# EAGLE library part K20_80PIN (library WSNlib)
K20 80-pin LQFP Device
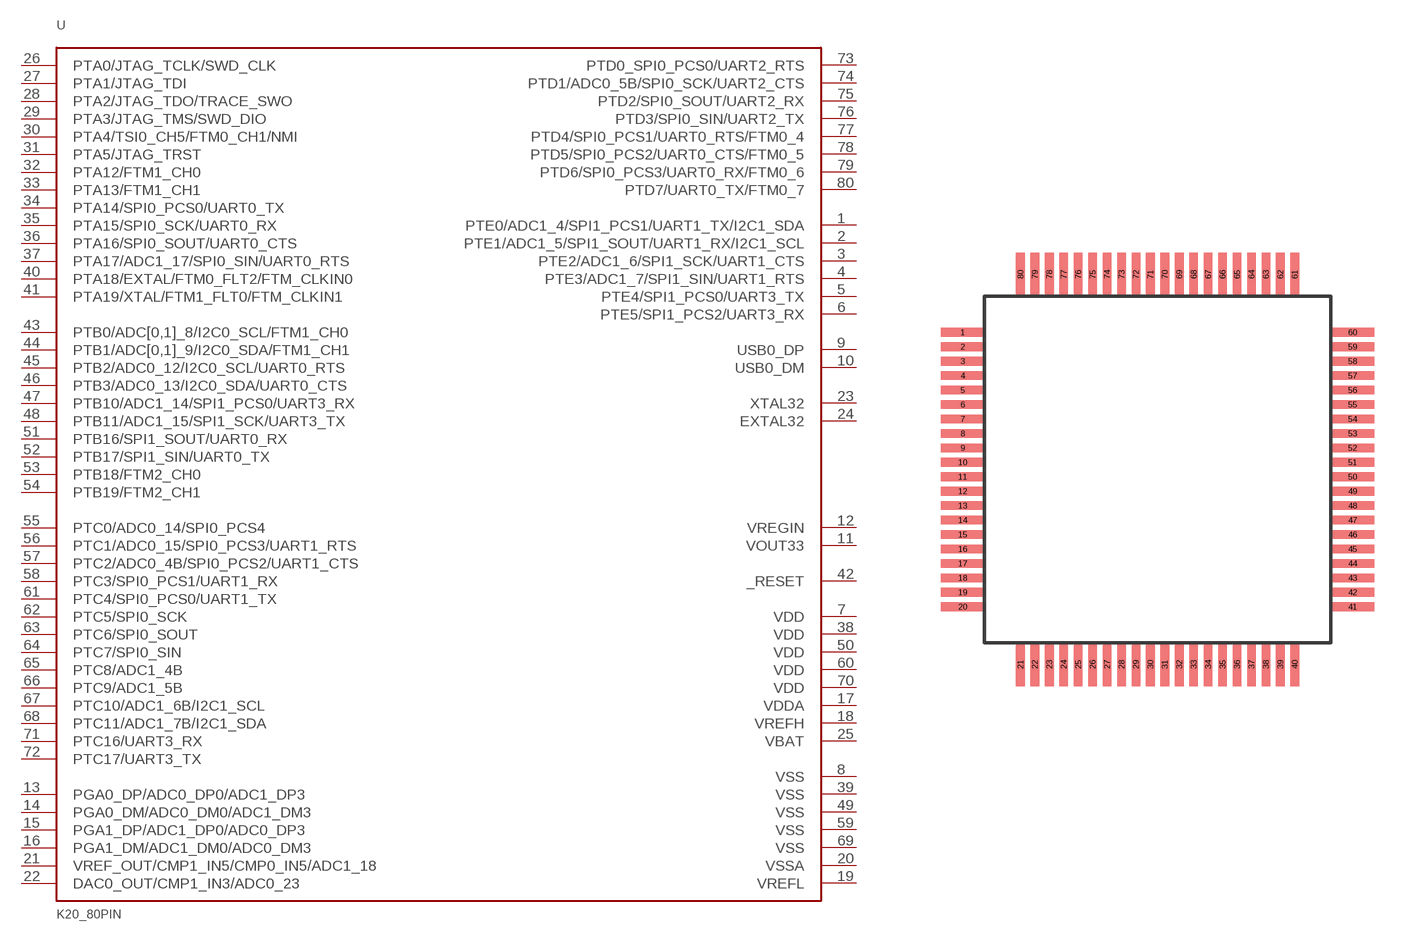
[diagram p13: symbol with the pads of K20_LQFP80; footprint K20_LQFP80]

Designator prefix U

## K20_80PIN  [K20_LQFP80]
1  PTE0/ADC1_4/SPI1_PCS1/UART1_TX/I2C1_SDA
2  PTE1/ADC1_5/SPI1_SOUT/UART1_RX/I2C1_SCL
3  PTE2/ADC1_6/SPI1_SCK/UART1_CTS
4  PTE3/ADC1_7/SPI1_SIN/UART1_RTS
5  PTE4/SPI1_PCS0/UART3_TX
6  PTE5/SPI1_PCS2/UART3_RX
7  VDD
8  VSS
9  USB0_DP
10  USB0_DM
11  VOUT33
12  VREGIN
13  PGA0_DP/ADC0_DP0/ADC1_DP3
14  PGA0_DM/ADC0_DM0/ADC1_DM3
15  PGA1_DP/ADC1_DP0/ADC0_DP3
16  PGA1_DM/ADC1_DM0/ADC0_DM3
17  VDDA
18  VREFH
19  VREFL
20  VSSA
21  VREF_OUT/CMP1_IN5/CMP0_IN5/ADC1_18
22  DAC0_OUT/CMP1_IN3/ADC0_23
23  XTAL32
24  EXTAL32
25  VBAT
26  PTA0/JTAG_TCLK/SWD_CLK
27  PTA1/JTAG_TDI
28  PTA2/JTAG_TDO/TRACE_SWO
29  PTA3/JTAG_TMS/SWD_DIO
30  PTA4/TSI0_CH5/FTM0_CH1/NMI
31  PTA5/JTAG_TRST
32  PTA12/FTM1_CH0
33  PTA13/FTM1_CH1
34  PTA14/SPI0_PCS0/UART0_TX
35  PTA15/SPI0_SCK/UART0_RX
36  PTA16/SPI0_SOUT/UART0_CTS
37  PTA17/ADC1_17/SPI0_SIN/UART0_RTS
38  VDD
39  VSS
40  PTA18/EXTAL/FTM0_FLT2/FTM_CLKIN0
41  PTA19/XTAL/FTM1_FLT0/FTM_CLKIN1
42  _RESET
43  PTB0/ADC[0,1]_8/I2C0_SCL/FTM1_CH0
44  PTB1/ADC[0,1]_9/I2C0_SDA/FTM1_CH1
45  PTB2/ADC0_12/I2C0_SCL/UART0_RTS
46  PTB3/ADC0_13/I2C0_SDA/UART0_CTS
47  PTB10/ADC1_14/SPI1_PCS0/UART3_RX
48  PTB11/ADC1_15/SPI1_SCK/UART3_TX
49  VSS
50  VDD
51  PTB16/SPI1_SOUT/UART0_RX
52  PTB17/SPI1_SIN/UART0_TX
53  PTB18/FTM2_CH0
54  PTB19/FTM2_CH1
55  PTC0/ADC0_14/SPI0_PCS4
56  PTC1/ADC0_15/SPI0_PCS3/UART1_RTS
57  PTC2/ADC0_4B/SPI0_PCS2/UART1_CTS
58  PTC3/SPI0_PCS1/UART1_RX
59  VSS
60  VDD
61  PTC4/SPI0_PCS0/UART1_TX
62  PTC5/SPI0_SCK
63  PTC6/SPI0_SOUT
64  PTC7/SPI0_SIN
65  PTC8/ADC1_4B
66  PTC9/ADC1_5B
67  PTC10/ADC1_6B/I2C1_SCL
68  PTC11/ADC1_7B/I2C1_SDA
69  VSS
70  VDD
71  PTC16/UART3_RX
72  PTC17/UART3_TX
73  PTD0_SPI0_PCS0/UART2_RTS
74  PTD1/ADC0_5B/SPI0_SCK/UART2_CTS
75  PTD2/SPI0_SOUT/UART2_RX
76  PTD3/SPI0_SIN/UART2_TX
77  PTD4/SPI0_PCS1/UART0_RTS/FTM0_4
78  PTD5/SPI0_PCS2/UART0_CTS/FTM0_5
79  PTD6/SPI0_PCS3/UART0_RX/FTM0_6
80  PTD7/UART0_TX/FTM0_7

## Footprint K20_LQFP80 (pad centres in mm)
LQFP80 package for K20
smd 1.5 x 0.3: 1 -6.75,4.75; 2 -6.75,4.25; 3 -6.75,3.75; 4 -6.75,3.25; 5 -6.75,2.75; 6 -6.75,2.25; 7 -6.75,1.75; 8 -6.75,1.25; 9 -6.75,0.75; 10 -6.75,0.25; 11 -6.75,-0.25; 12 -6.75,-0.75; 13 -6.75,-1.25; 14 -6.75,-1.75; 15 -6.75,-2.25; 16 -6.75,-2.75; 17 -6.75,-3.25; 18 -6.75,-3.75; 19 -6.75,-4.25; 20 -6.75,-4.75; 41 6.75,-4.75; 42 6.75,-4.25; 43 6.75,-3.75; 44 6.75,-3.25; 45 6.75,-2.75; 46 6.75,-2.25; 47 6.75,-1.75; 48 6.75,-1.25; 49 6.75,-0.75; 50 6.75,-0.25; 51 6.75,0.25; 52 6.75,0.75; 53 6.75,1.25; 54 6.75,1.75; 55 6.75,2.25; 56 6.75,2.75; 57 6.75,3.25; 58 6.75,3.75; 59 6.75,4.25; 60 6.75,4.75
smd 0.3 x 1.5: 21 -4.75,-6.75; 22 -4.25,-6.75; 23 -3.75,-6.75; 24 -3.25,-6.75; 25 -2.75,-6.75; 26 -2.25,-6.75; 27 -1.75,-6.75; 28 -1.25,-6.75; 29 -0.75,-6.75; 30 -0.25,-6.75; 31 0.25,-6.75; 32 0.75,-6.75; 33 1.25,-6.75; 34 1.75,-6.75; 35 2.25,-6.75; 36 2.75,-6.75; 37 3.25,-6.75; 38 3.75,-6.75; 39 4.25,-6.75; 40 4.75,-6.75; 61 4.75,6.75; 62 4.25,6.75; 63 3.75,6.75; 64 3.25,6.75; 65 2.75,6.75; 66 2.25,6.75; 67 1.75,6.75; 68 1.25,6.75; 69 0.75,6.75; 70 0.25,6.75; 71 -0.25,6.75; 72 -0.75,6.75; 73 -1.25,6.75; 74 -1.75,6.75; 75 -2.25,6.75; 76 -2.75,6.75; 77 -3.25,6.75; 78 -3.75,6.75; 79 -4.25,6.75; 80 -4.75,6.75